# Altium schematic symbol library IC_FTDI_FT232RQ-REEL.SchLib: 1 symbol
Pins are listed as number, name and electrical type; pins without a type are passive.

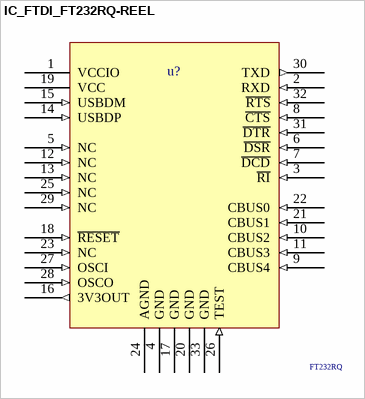
[diagram p0: symbol IC_FTDI_FT232RQ-REEL]

## IC_FTDI_FT232RQ-REEL
designator u?  Series: FT232RQ  (hidden comment: IC_FTDI_FT232RQ-REEL)
USB Interface IC USB to Serial UART Enhanced IC QFN-32; Supplier 1: Mouser; Supplier Part Number 1: 895-FT232RQ
footprint IC_FTDI_FT232RQ-REEL
pins: 1 VCCIO (power), 2 RXD (in), 3 ~{RI} (in), 4 GND (power), 5 NC (in), 6 ~{DSR} (in), 7 ~{DCD} (in), 8 ~{CTS} (in), 9 CBUS4 (in), 10 CBUS2 (in), 11 CBUS3 (in), 12 NC (in), 13 NC (in), 14 USBDP (in), 15 USBDM (in), 16 3V3OUT (out), 17 GND (power), 18 ~{RESET} (in), 19 VCC (power), 20 GND (power), 21 CBUS1 (in), 22 CBUS0 (in), 23 NC (in), 24 AGND (power), 25 NC (in), 26 TEST (in), 27 OSCI (in), 28 OSCO (in), 29 NC (in), 30 TXD (out), 31 ~{DTR} (in), 32 ~{RTS} (in), 33 GND (power)